# Altium schematic symbol library Top Level.SchLib: 1 symbol
Pins are listed as number, name and electrical type; pins without a type are passive.

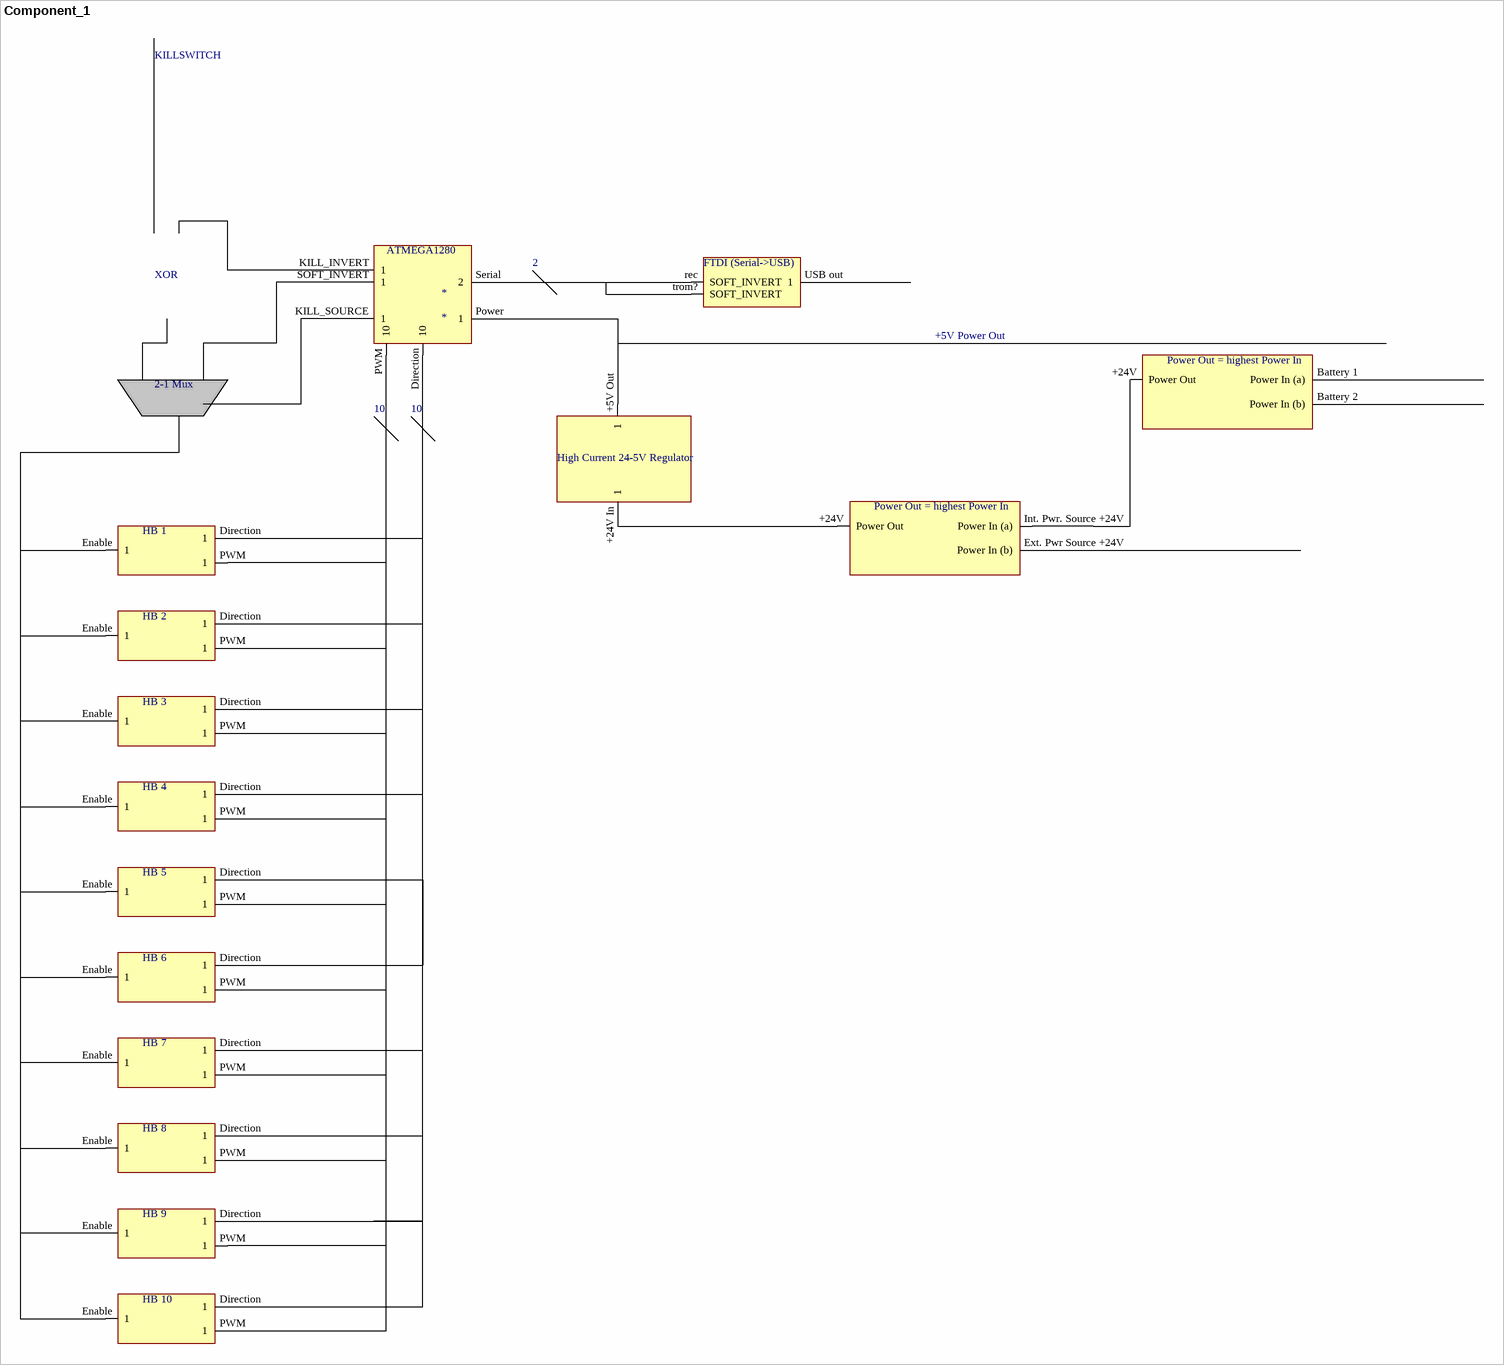
[diagram p0: symbol Component_1]

## Component_1
designator *
pins: +5V Out 1, +24V Power Out, +24V Power Out, +24V In 1, Battery 1 Power In (a), Battery 2 Power In (b), Direction 10, Direction 1, Direction 1, Direction 1, Direction 1, Direction 1, Direction 1, Direction 1, Direction 1, Direction 1, Direction 1, Enable 1, Enable 1, Enable 1, Enable 1, Enable 1, Enable 1, Enable 1, Enable 1, Enable 1, Enable 1, Ext. Pwr Source +24V Power In (b), Int. Pwr. Source +24V Power In (a), KILL_INVERT 1, KILL_SOURCE 1, Power 1, PWM 10, PWM 1, PWM 1, PWM 1, PWM 1, PWM 1, PWM 1, PWM 1, PWM 1, PWM 1, PWM 1, rec SOFT_INVERT, Serial 2, SOFT_INVERT 1, trom? SOFT_INVERT, USB out 1
text: KILLSWITCH; ATMEGA1280; FTDI (Serial->USB); XOR; +5V Power Out; Power Out = highest Power In; 2-1 Mux; High Current 24-5V Regulator; HB 1; HB 2; HB 3; HB 4; HB 5; HB 6; HB 7; HB 8; HB 9; HB 10